# EAGLE library part TSW-D-68_S (library con-samtec-tsw)
HEADER
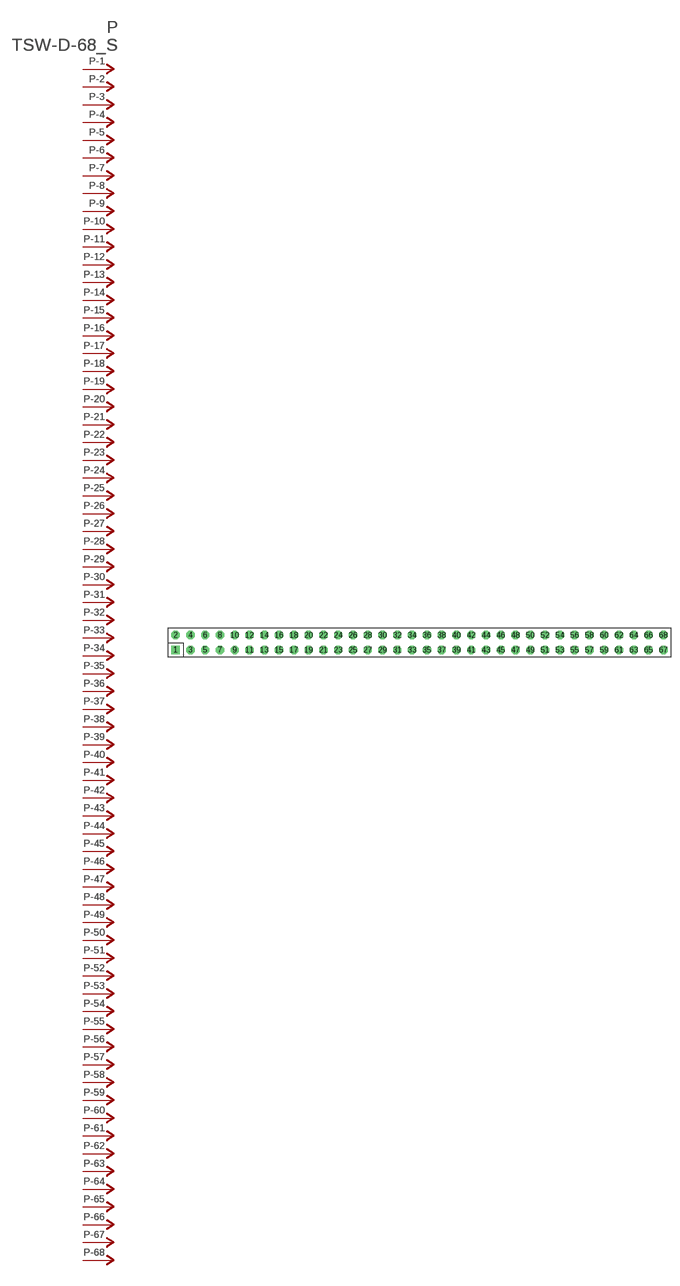
[diagram p169: symbol with the pads of TSW-D-68; footprint TSW-D-68]

Designator prefix P; gates -1=P-NV -2=P-N -3=P-N -4=P-N -5=P-N -6=P-N -7=P-N -8=P-N -9=P-N -10=P-N -11=P-N -12=P-N -13=P-N -14=P-N -15=P-N -16=P-N -17=P-N -18=P-N -19=P-N -20=P-N -21=P-N -22=P-N -23=P-N -24=P-N -25=P-N -26=P-N -27=P-N -28=P-N -29=P-N -30=P-N -31=P-N -32=P-N -33=P-N -34=P-N -35=P-N -36=P-N -37=P-N -38=P-N -39=P-N -40=P-N -41=P-N -42=P-N -43=P-N -44=P-N -45=P-N -46=P-N -47=P-N -48=P-N -49=P-N -50=P-N -51=P-N -52=P-N -53=P-N -54=P-N -55=P-N -56=P-N -57=P-N -58=P-N -59=P-N -60=P-N -61=P-N -62=P-N -63=P-N -64=P-N -65=P-N -66=P-N -67=P-N -68=P-N

## TSW-D-68_S  [TSW-D-68]
1  -1:P  pas
2  -2:P  pas
3  -3:P  pas
4  -4:P  pas
5  -5:P  pas
6  -6:P  pas
7  -7:P  pas
8  -8:P  pas
9  -9:P  pas
10  -10:P  pas
11  -11:P  pas
12  -12:P  pas
13  -13:P  pas
14  -14:P  pas
15  -15:P  pas
16  -16:P  pas
17  -17:P  pas
18  -18:P  pas
19  -19:P  pas
20  -20:P  pas
21  -21:P  pas
22  -22:P  pas
23  -23:P  pas
24  -24:P  pas
25  -25:P  pas
26  -26:P  pas
27  -27:P  pas
28  -28:P  pas
29  -29:P  pas
30  -30:P  pas
31  -31:P  pas
32  -32:P  pas
33  -33:P  pas
34  -34:P  pas
35  -35:P  pas
36  -36:P  pas
37  -37:P  pas
38  -38:P  pas
39  -39:P  pas
40  -40:P  pas
41  -41:P  pas
42  -42:P  pas
43  -43:P  pas
44  -44:P  pas
45  -45:P  pas
46  -46:P  pas
47  -47:P  pas
48  -48:P  pas
49  -49:P  pas
50  -50:P  pas
51  -51:P  pas
52  -52:P  pas
53  -53:P  pas
54  -54:P  pas
55  -55:P  pas
56  -56:P  pas
57  -57:P  pas
58  -58:P  pas
59  -59:P  pas
60  -60:P  pas
61  -61:P  pas
62  -62:P  pas
63  -63:P  pas
64  -64:P  pas
65  -65:P  pas
66  -66:P  pas
67  -67:P  pas
68  -68:P  pas

## Footprint TSW-D-68 (pad centres in mm)
HEADER
drill 0.914 square: 1 -41.91,-1.27
drill 0.914 octagon: 2 -41.91,1.27; 3 -39.37,-1.27; 4 -39.37,1.27; 5 -36.83,-1.27; 6 -36.83,1.27; 7 -34.29,-1.27; 8 -34.29,1.27; 9 -31.75,-1.27; 10 -31.75,1.27; 11 -29.21,-1.27; 12 -29.21,1.27; 13 -26.67,-1.27; 14 -26.67,1.27; 15 -24.13,-1.27; 16 -24.13,1.27; 17 -21.59,-1.27; 18 -21.59,1.27; 19 -19.05,-1.27; 20 -19.05,1.27; 21 -16.51,-1.27; 22 -16.51,1.27; 23 -13.97,-1.27; 24 -13.97,1.27; 25 -11.43,-1.27; 26 -11.43,1.27; 27 -8.89,-1.27; 28 -8.89,1.27; 29 -6.35,-1.27; 30 -6.35,1.27; 31 -3.81,-1.27; 32 -3.81,1.27; 33 -1.27,-1.27; 34 -1.27,1.27; 35 1.27,-1.27; 36 1.27,1.27; 37 3.81,-1.27; 38 3.81,1.27; 39 6.35,-1.27; 40 6.35,1.27; 41 8.89,-1.27; 42 8.89,1.27; 43 11.43,-1.27; 44 11.43,1.27; 45 13.97,-1.27; 46 13.97,1.27; 47 16.51,-1.27; 48 16.51,1.27; 49 19.05,-1.27; 50 19.05,1.27; 51 21.59,-1.27; 52 21.59,1.27; 53 24.13,-1.27; 54 24.13,1.27; 55 26.67,-1.27; 56 26.67,1.27; 57 29.21,-1.27; 58 29.21,1.27; 59 31.75,-1.27; 60 31.75,1.27; 61 34.29,-1.27; 62 34.29,1.27; 63 36.83,-1.27; 64 36.83,1.27; 65 39.37,-1.27; 66 39.37,1.27; 67 41.91,-1.27; 68 41.91,1.27